# EAGLE library part ADR45XX (library ADC)
ADR45XX edit this description Auto generated by make-symbol-device-package-bsdl.ulp Rev. 44 Source: ADR45XX.txt
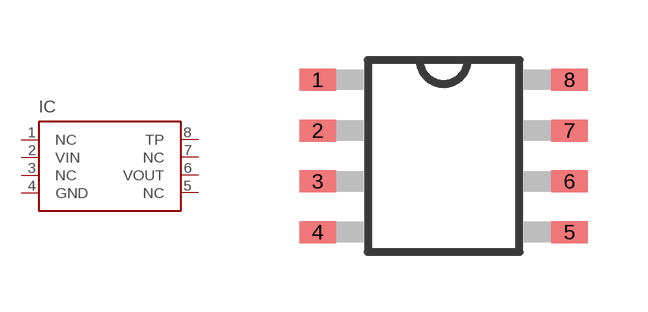
[diagram p1: symbol with the pads of SSOP8; footprint SSOP8]

Designator prefix IC

## ADR45XX  [SSOP8]
1  NC
2  VIN  pwr
3  NC
4  GND  pwr
5  NC
6  VOUT  pwr
7  NC
8  TP

## Footprint SSOP8 (pad centres in mm)
SSOP8 Auto generated by make-symbol-device-package-bsdl.ulp Rev. 44
smd 0.9 x 0.55: 1 -3.15,1.905; 2 -3.15,0.635; 3 -3.15,-0.635; 4 -3.15,-1.905; 5 3.15,-1.905; 6 3.15,-0.635; 7 3.15,0.635; 8 3.15,1.905